# Altium footprint library T8_devkit_PCB.PcbLib: 19 footprints (part 2 of 2)
Each footprint in its own frame and in the unit in brackets; x right, y up, seen from the top. Pads: shape width x height; smd on the part's side, far side on the other; paste and mask are expansions set on the pad; w line width, h text height; cw(c..) or ccw(c..) is an arc to the next point about the centre after c.
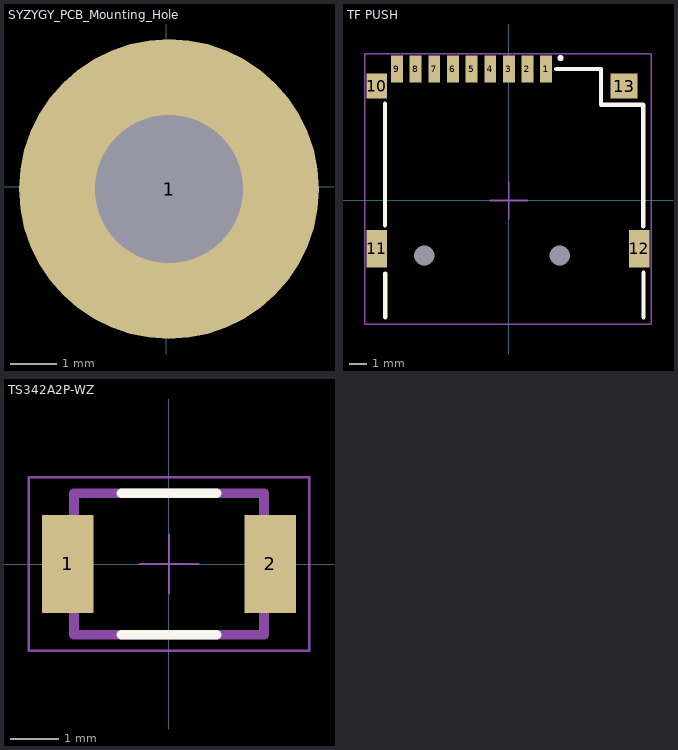
[diagram p1: the footprints below, top view; thin cyan lines are the x and y axes]

## SYZYGY_PCB_Mounting_Hole [mm] "SYZYGY_PCB_Mounting_Hole"
pads (1):
  round 6.5 hole 3.2 mask+0.05: 1(0.064,-0.051)

## TF PUSH [mm] "Body 14.75mmx14.50mm, Pitch 1.8mm"
pads (15):
  rect 0.7x1.6 smd mask+0.05: 1(2.2,7.75) 2(1.1,7.75) 3(0,7.75) 4(-1.1,7.75) 5(-2.2,7.75) 6(-3.3,7.75) 7(-4.4,7.75) 8(-5.5,7.75) 9(-6.6,7.75)
  rect 1.2x1.5 smd mask+0.05: 10(-7.8,6.75)
  rect 1.2x2.2 smd mask+0.05: 11(-7.8,-2.85) 12(7.7,-2.85)
  rect 1.6x1.5 smd mask+0.05: 13(6.8,6.75)
  round 1 hole 1.2 unplated mask+0.05: ""(-5,-3.25) ""(3,-3.25)
Top Overlay:
  circle w0.254: c3.05,8.4 r0.052
  lines w0.254: -7.31,-1.46 -7.31,5.7 ; -7.3,-6.9 -7.29,-4.31 ; 2.8,7.75 4.652,7.75 5.439,7.75 5.439,5.649 5.45,5.65 ; 5.44,5.65 7.93,5.65 7.93,-1.519 ; 7.95,-6.9 7.95,-4.26
Mechanical 15:
  circle w0.4: c3,-3.25 r0.2
  circle w0.4: c-5,-3.25 r0.2
  lines w0.1: -1.1,0 0,0 ; 0,-1.1 0,0 ; 0,1.1 0,0 ; 1.1,0 0,0 ; -8.5,-7.3 8.25,-7.3 8.4,-7.3 8.4,8.65 -8.5,8.65 -8.5,-7.3
3D body "XKXFS-N02-XXT.step": height 1.86, standoff -0.54, extent -8.25,-7.25 8.15,7.75

## TS342A2P-WZ [mm] "3.95mm x 2.9mm x 2.1mm"
pads (2):
  rect 1.05x2 smd mask+0.05: 1(-2.075,0) 2(2.075,0)
Top Overlay:
  lines w0.2: -0.975,-1.45 0.975,-1.45 ; -0.975,1.45 0.975,1.45
Mechanical 13:
  lines w0.2: -1.95,-1.45 -1.95,1.45 1.95,1.45 1.95,-1.45 -1.95,-1.45
Mechanical 15:
  lines w0.05: -0.6,0 0,0 ; 0,-0.6 0,0 ; 0,0.6 0,0 ; 0.6,0 0,0 ; -2.875,-1.775 2.875,-1.775 2.875,-0.825 2.875,0.825 2.875,1.775 -2.875,1.775 -2.875,0.781 -2.875,-0.806 -2.875,-1.775
3D body "PTS820J20KSMTRLFS.step": height 2.05, standoff 0.05, extent -2.25,-1.45 2.25,1.45